# Altium schematic symbol library Resistors-0603.SchLib: 5 symbols
Pins are listed as number, name and electrical type; pins without a type are passive.

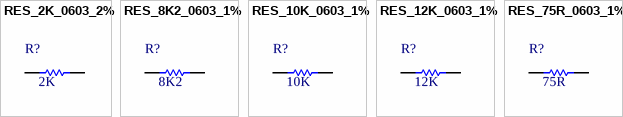
[diagram p0: symbols RES_2K_0603_2% to RES_75R_0603_1%]

## RES_2K_0603_2%
designator R?, comment value 2K  (hidden comment: 2K 2% 0603)
2K 1.5W 2% 0603 (1005 Metric); Manufacturer: Vishay; PartNumber: RCP0603W2K00GEB; Tolerance: 2%; Power: 1.5W; Mounting Technology: Surface Mount; PackageReference: 0603; PackageDescription: 0603 (1608 Metric); ComponentLink1Description: Datasheet; ComponentLink1URL: http://www.vishay.com/docs/20043/crcwhpe3.pdf
footprint R0603[1608] (Chip Resistor, Body 1.55x0.85mm)
pins: 1, 2

## RES_8K2_0603_1%
designator R?, comment value 8K2  (hidden comment: 8K2 1% 0603)
8K2 0.25W 1% 0603 (1005 Metric); Manufacturer: Vishay; PartNumber: CRCW06038K20FKEAHP; Tolerance: 1%; Power: 0.25W; Mounting Technology: Surface Mount; PackageReference: 0603; PackageDescription: 0603 (1608 Metric); ComponentLink1Description: Datasheet; ComponentLink1URL: http://www.vishay.com/docs/20043/crcwhpe3.pdf
footprint R0603[1608] (Chip Resistor, Body 1.55x0.85mm)
pins: 1, 2

## RES_10K_0603_1%
designator R?, comment value 10K  (hidden comment: 10K 1% 0603)
10K 0.25W 1% 0603 (1005 Metric); Manufacturer: Vishay; PartNumber: RCS060310K0FKEA; Tolerance: 1%; Power: 0.25W; Mounting Technology: Surface Mount; PackageReference: 0603; PackageDescription: 0603 (1608 Metric); ComponentLink1Description: Datasheet; ComponentLink1URL: http://www.vishay.com/docs/20065/rcse3.pdf
footprint R0603[1608] (Chip Resistor, Body 1.55x0.85mm)
pins: 1, 2

## RES_12K_0603_1%
designator R?, comment value 12K  (hidden comment: 12K 1% 0603)
12K 0.25W 1% 0603 (1005 Metric); Manufacturer: Vishay; PartNumber: RCS060312K0FKEA; Tolerance: 1%; Power: 0.25W; Mounting Technology: Surface Mount; PackageReference: 0603; PackageDescription: 0603 (1608 Metric); ComponentLink1Description: Datasheet; ComponentLink1URL: http://www.vishay.com/docs/20065/rcse3.pdf
footprint R0603[1608] (Chip Resistor, Body 1.55x0.85mm)
pins: 1, 2

## RES_75R_0603_1%
designator R?, comment value 75R  (hidden comment: 75R 1% 0603)
75R 0.25W 1% 0603 (1005 Metric); Manufacturer: Vishay / Dale; PartNumber: CRCW060375R0FKEAHP; Tolerance: 1%; Power: 0.25W; Mounting Technology: Surface Mount; PackageReference: 0603; PackageDescription: 0603 (1608 Metric); ComponentLink1Description: Datasheet; ComponentLink1URL: http://www.vishay.com/docs/20043/crcwhpe3.pdf
footprint R0603[1608] (Chip Resistor, Body 1.55x0.85mm)
pins: 1, 2